# EAGLE library part IC-ATTINY85 (library - Jins eagle lbr)
Atmel 8-pin 2/4/8kB flash uC
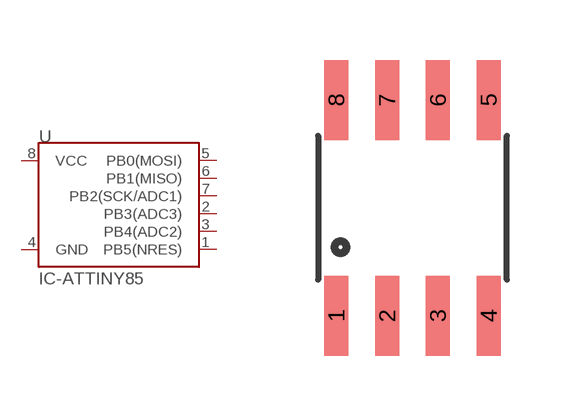
[diagram p15: symbol with the pads of SOP-08; footprint SOP-08]

Designator prefix U

## IC-ATTINY85-TINY85  [SOP-08]
1  PB5(NRES)
2  PB3(ADC3)
3  PB4(ADC2)
4  GND
5  PB0(MOSI)
6  PB1(MISO)
7  PB2(SCK/ADC1)
8  VCC

## Footprint SOP-08 (pad centres in mm)
smd 0.6 x 2: 1 -1.905,-2.7; 2 -0.635,-2.7; 3 0.635,-2.7; 4 1.905,-2.7; 5 1.905,2.7; 6 0.635,2.7; 7 -0.635,2.7; 8 -1.905,2.7